# Altium schematic symbol library NAU7802KGI.SchLib: 1 symbol
Pins are listed as number, name and electrical type; pins without a type are passive.

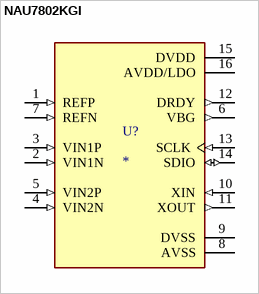
[diagram p0: symbol NAU7802KGI]

## NAU7802KGI
designator U?
24 Bit Analog to Digital Converter 2 Input 1 Sigma-Delta 16-PDIP; MF: Nuvoton Technology Corporation of America; MP: NAU7802KGI; SnapEDA_Link: https://www.snapeda.com/parts/NAU7802KGI/Nuvoton/view-part/?ref=snap; Package: Package; Value: *; Check_prices: https://www.snapeda.com/parts/NAU7802KGI/Nuvoton/view-part/?ref=eda
footprint DIP792W45P254L1904H533Q16
pins: 1 REFP (in), 2 VIN1N (in), 3 VIN1P (in), 4 VIN2N (in), 5 VIN2P (in), 6 VBG (out), 7 REFN (in), 8 AVSS (power), 9 DVSS (power), 10 XIN (in), 11 XOUT (out), 12 DRDY (out), 13 SCLK (in), 14 SDIO (io), 15 DVDD (power), 16 AVDD/LDO (power)